# EAGLE library part 62532020621 (library Wire-to-Board (rev18a))
WR-BHD 2.00mm Male SMT Box Header High Temperature, 20 Pins=>Code : Con_WTB_BHD_2.00_Male_SMT_62532020621 <http://katalog.we-online.de/media/thumbs2/eican/thb_Con_WTB_BHD_2.00_Male_SMT_6253xx20621_pf2.jpg> Details see: http://katalog.we-online.de/en/em/625_3xx_206_21 Created 2014-06-05, Karrer Zheng 2014 (C) Würth Elektronik
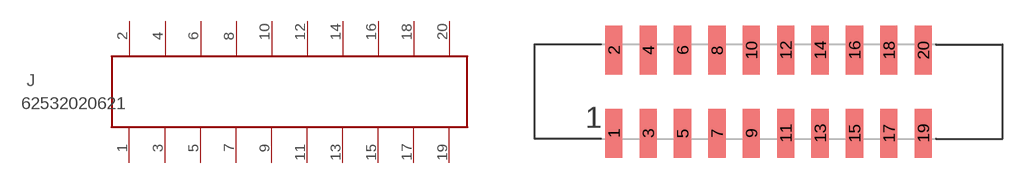
[diagram p268: symbol with the pads of 62532020621; footprint 62532020621]

Designator prefix J

## 62532020621  [62532020621]
1  1  pas
2  2  pas
3  3  pas
4  4  pas
5  5  pas
6  6  pas
7  7  pas
8  8  pas
9  9  pas
10  10  pas
11  11  pas
12  12  pas
13  13  pas
14  14  pas
15  15  pas
16  16  pas
17  17  pas
18  18  pas
19  19  pas
20  20  pas

## Footprint 62532020621 (pad centres in mm)
WRBHD-2.00mm Male SMT Box Header High Temperature,20 pins
smd 1 x 2.85: 1 -9,-2.425; 2 -9,2.425; 3 -7,-2.425; 4 -7,2.425; 5 -5,-2.425; 6 -5,2.425; 7 -3,-2.425; 8 -3,2.425; 9 -1,-2.425; 10 -1,2.425; 11 1,-2.425; 12 1,2.425; 13 3,-2.425; 14 3,2.425; 15 5,-2.425; 16 5,2.425; 17 7,-2.425; 18 7,2.425; 19 9,-2.425; 20 9,2.425